# EAGLE library part INA225 (library ina)
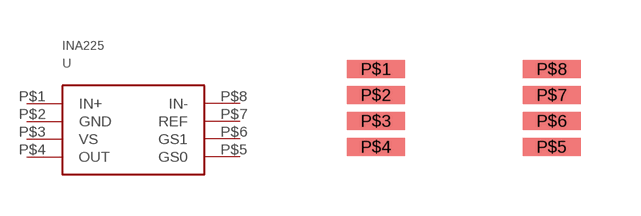
[diagram p0: symbol with the pads of MSOP-8; footprint MSOP-8]

Designator prefix -

## INA225  [MSOP-8]
P$1  IN+
P$2  GND
P$3  VS
P$4  OUT
P$5  GS0
P$6  GS1
P$7  REF
P$8  IN-

## Footprint MSOP-8 (pad centres in mm)
smd 1.45 x 0.45: P$1 0.75,0; P$2 0.75,-0.65; P$3 0.75,-1.3; P$4 0.75,-1.95; P$5 5.15,-1.95; P$6 5.15,-1.3; P$7 5.15,-0.65; P$8 5.15,0